# EAGLE library part HIJACK-INTERFACE (library umich)
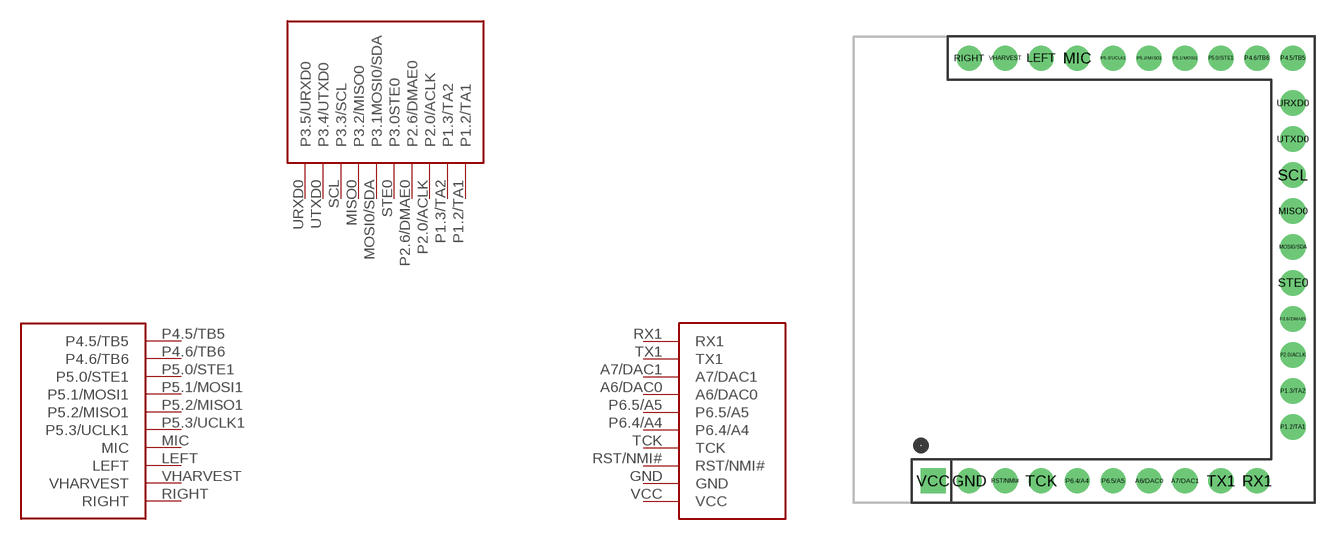
[diagram p4: symbol with the pads of HIJACK-INTERFACE-30PIN; footprint HIJACK-INTERFACE-30PIN]

Designator prefix J

## HIJACK-INTERFACE  [HIJACK-INTERFACE-30PIN]
A6/DAC0  A6/DAC0
A7/DAC1  A7/DAC1
GND  GND
LEFT  LEFT
MIC  MIC
MISO0  P3.2/MISO0
MOSI0/SDA  P3.1MOSI0/SDA
P1.2/TA1  P1.2/TA1
P1.3/TA2  P1.3/TA2
P2.0/ACLK  P2.0/ACLK
P2.6/DMAE0  P2.6/DMAE0
P4.5/TB5  P4.5/TB5
P4.6/TB6  P4.6/TB6
P5.0/STE1  P5.0/STE1
P5.1/MOSI1  P5.1/MOSI1
P5.2/MISO1  P5.2/MISO1
P5.3/UCLK1  P5.3/UCLK1
P6.4/A4  P6.4/A4
P6.5/A5  P6.5/A5
RIGHT  RIGHT
RST/NMI#  RST/NMI#
RX1  RX1
SCL  P3.3/SCL
STE0  P3.0STE0
TCK  TCK
TX1  TX1
URXD0  P3.5/URXD0
UTXD0  P3.4/UTXD0
VCC  VCC
VHARVEST  VHARVEST

## Footprint HIJACK-INTERFACE-30PIN (pad centres in mm)
drill 0.89 pad 1.346: A6/DAC0 2.89,-12.46; A7/DAC1 4.89,-12.46; GND -7.11,-12.46; LEFT -3.11,11.04; MIC -1.11,11.04; MISO0 10.89,2.54; MOSI0/SDA 10.89,0.54; P1.2/TA1 10.89,-9.46; P1.3/TA2 10.89,-7.46; P2.0/ACLK 10.89,-5.46; P2.6/DMAE0 10.89,-3.46; P4.5/TB5 10.89,11.04; P4.6/TB6 8.89,11.04; P5.0/STE1 6.89,11.04; P5.1/MOSI1 4.89,11.04; P5.2/MISO1 2.89,11.04; P5.3/UCLK1 0.89,11.04; P6.4/A4 -1.11,-12.46; P6.5/A5 0.89,-12.46; RIGHT -7.11,11.04; RST/NMI# -5.11,-12.46; RX1 8.89,-12.46; SCL 10.89,4.54; STE0 10.89,-1.46; TCK -3.11,-12.46; TX1 6.89,-12.46; URXD0 10.89,8.54; UTXD0 10.89,6.54; VHARVEST -5.11,11.04
drill 0.89 pad 1.346 square: VCC -9.11,-12.46